# EAGLE library part K-USB- (library elpp-v1.1)
USB connectors, shielded
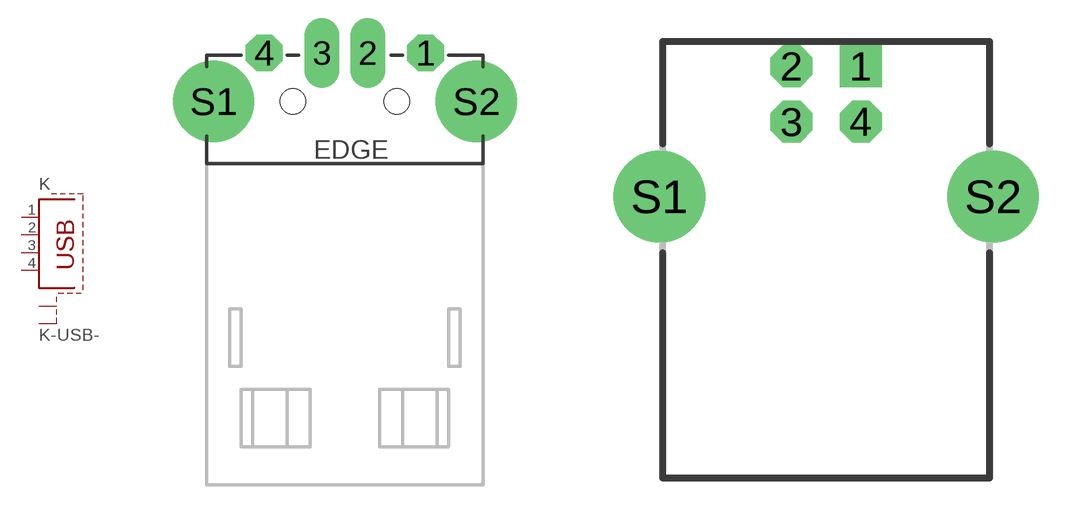
[diagram p48: symbol with the pads of EPP-USB-A-PLUG; footprints EPP-USB-A-PLUG, EPP-USB-B]

Designator prefix K

## K-USB-A-PLUG (FARNELL: unknown; RS: 7378805)  [EPP-USB-A-PLUG]
1  1  pas
2  2  pas
3  3  pas
4  4  pas
S1  S1  pas
S2  S2  pas

## K-USB-B (FARNELL: 2112373; RS: 6741328)  [EPP-USB-B]
Pads as for EPP-USB-A-PLUG

## K-USB-A (FARNELL: 2112381; RS: 7710057)  [EPP-USB-A]
Pads as for EPP-USB-A-PLUG

## Footprint EPP-USB-A-PLUG (pad centres in mm)
drill 1 pad 1.6 octagon: 1 3.5,2.1; 4 -3.5,2.1
drill 1 long: 2 1,2.1; 3 -1,2.1
drill 2.5: S1 -5.7,0; S2 5.7,0
hole 1.1 at -2.25,0
hole 1.1 at 2.25,0

## Footprint EPP-USB-B (pad centres in mm)
USB connector, type B with shield.
drill 1 square: 1 1.25,4.71
drill 1 octagon: 2 -1.25,4.71; 3 -1.25,2.71; 4 1.25,2.71
drill 2.3: S1 -6.02,0; S2 6.02,0

## Footprint EPP-USB-A (pad centres in mm)
USB connector, type A with shield.
drill 1 long: 1 -3.5,2.71; 2 -1,2.71; 3 1,2.71; 4 3.5,2.71
drill 2.3: S1 -6.57,0; S2 6.57,0